# Altium footprint library PcbLib1.PcbLib: 8 footprints
Each footprint in its own frame and in the unit in brackets; x right, y up, seen from the top. Pads: shape width x height; smd on the part's side, far side on the other; paste and mask are expansions set on the pad; w line width, h text height; cw(c..) or ccw(c..) is an arc to the next point about the centre after c.
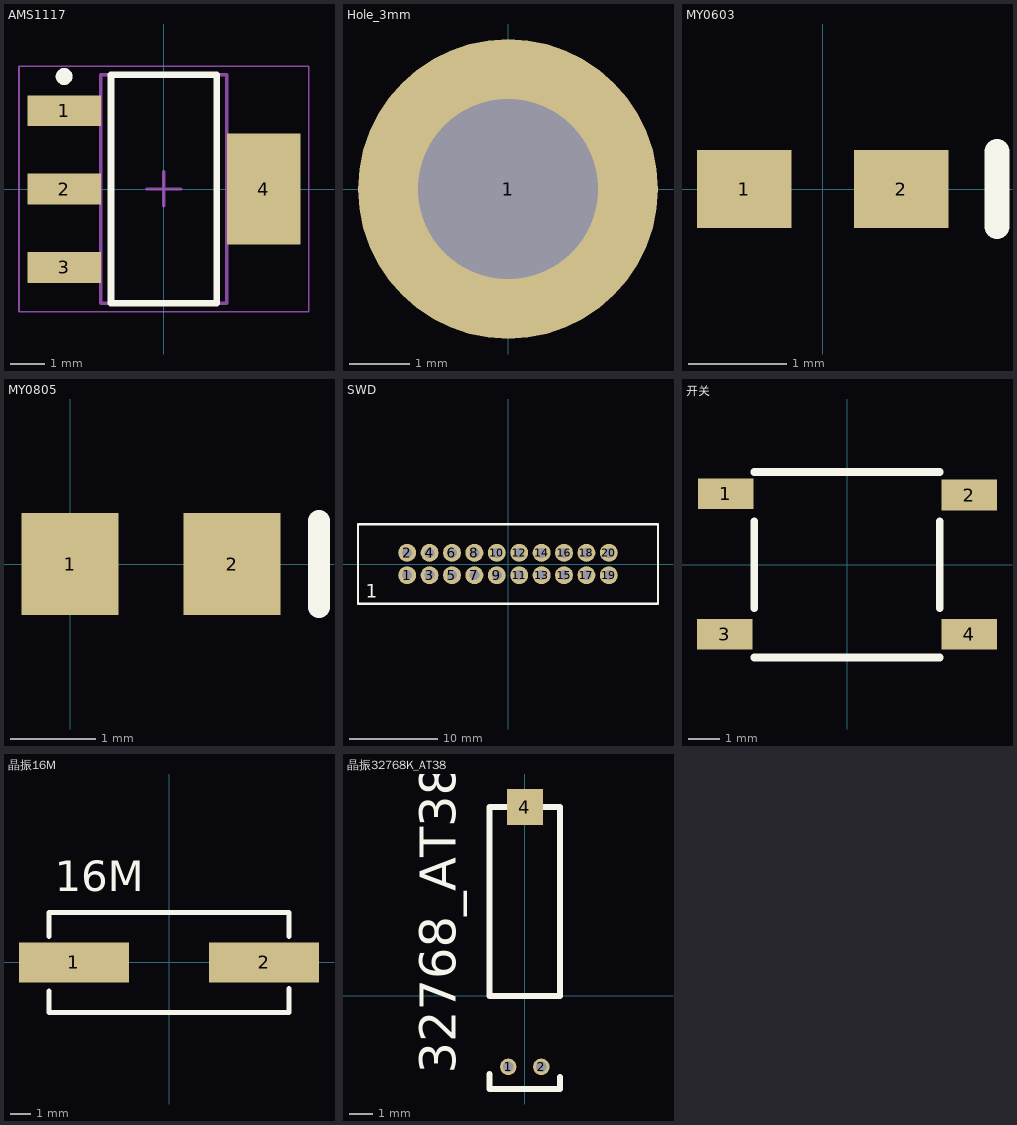
[diagram p0: the footprints below, top view; thin cyan lines are the x and y axes]

## AMS1117 [mm] "SOT223, 4-Leads, Body 6.50x7.00mm (avg), Pitch 2.30mm, IPC Medium Density"
height 1.8
pads (4):
  rect 2.15x0.9 smd: 1(-2.925,2.3) 2(-2.925,0) 3(-2.925,-2.3)
  rect 2.15x3.25 smd: 4(2.925,0)
Top Overlay:
  circle w0.25: c-2.925,3.3 r0.125
  lines w0.2: -1.55,-3.35 -1.55,3.35 1.55,3.35 1.55,-3.35 -1.55,-3.35
Mechanical 13:
  lines w0.1: -1.85,-3.35 -1.85,3.35 1.85,3.35 1.85,-3.35 -1.85,-3.35
Mechanical 15:
  lines w0.05: -4.25,-3.6 -4.25,3.6 4.25,3.6 4.25,-3.6 -4.25,-3.6
  lines w0.1: -0.5,0 0.5,0 ; 0,-0.5 0,0.5
3D body: height 1.8, standoff 0.02, extent -1.85,-3.35 1.85,3.35

## Hole_3mm [mm]
pads (1):
  round 5 hole 3: 1(0,0)

## MY0603 [mm]
pads (2):
  rect 0.965x0.8 smd: 1(-0.8,0) 2(0.8,0)
Top Overlay:
  lines w0.254: 1.778,-0.381 1.778,0.381

## MY0805 [mm]
pads (2):
  rect 1.14x1.2 smd: 1(0,0) 2(1.9,0)
Top Overlay:
  lines w0.254: 2.921,-0.508 2.921,0.508

## SWD [mil]
pads (20):
  round 80 hole 45: 1(-450,-50) 2(-450,50) 3(-350,-50) 4(-350,50) 5(-250,-50) 6(-250,50) 7(-150,-50) 8(-150,50) 9(-50,-50) 10(-50,50) 11(50,-50) 12(50,50) 13(150,-50) 14(150,50) 15(250,-50) 16(250,50) 17(350,-50) 18(350,50) 19(450,-50) 20(450,50)
Top Overlay:
  lines w10: -669.29,-177.17 -669.29,177.17 669.29,177.17 669.29,-177.17 -669.29,-177.17
  text "1" at -635,-150 h60

## 开关 [mm]
pads (4):
  rect 1.8x1 smd: 1(-3.916,2.293) 2(3.95,2.25) 3(-3.95,-2.25) 4(3.95,-2.25)
Top Overlay:
  lines w0.254: -3,-3 3,-3 ; -3,-1.397 -3,1.397 ; -3,3 3,3 ; 3,-1.397 3,1.397

## 晶振16M [mm]
pads (2):
  rect 5.5x2 smd: 1(-4.75,0) 2(4.75,0)
Top Overlay:
  lines w0.254: -6,-1.428 -6,-2.5 6,-2.5 6,-1.301 ; -6,1.301 -6,2.5 6,2.5 6,1.301
  text "16M" at -5.715,3.556 h1.52

## 晶振32768K_AT38 [mm]
pads (3):
  round 0.7 hole 0.45: 1(-0.7,-3) 2(0.7,-3)
  rect 1.524x1.524 smd: 4(0,8)
Top Overlay:
  lines w0.254: -1.5,-3.302 -1.5,-3.937 1.5,-3.937 1.5,-3.429 ; -1.5,0 -1.5,8 1.5,8 1.5,0 -1.5,0
  text "32768_AT38" at -2.921,-3.302 h1.52